# EAGLE library part INTEL_MKR_EXP_P1 (library IntelMKR_ExpP)
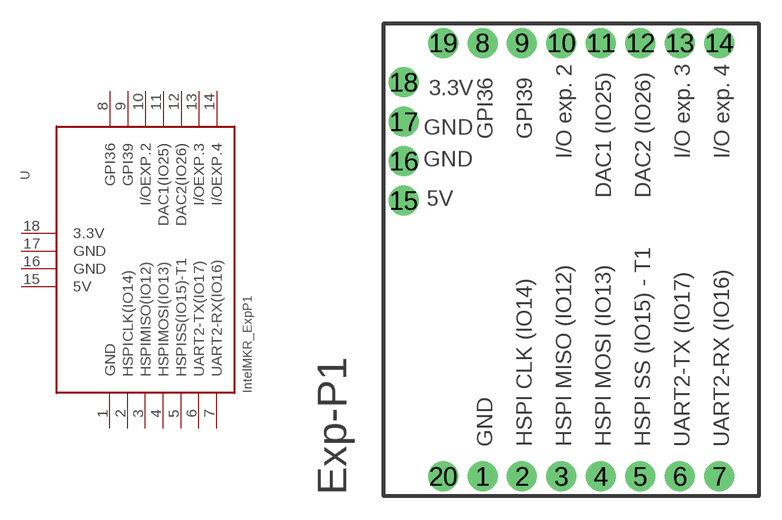
[diagram p0: symbol with the pads of INTEL_MKR_EXP_P1; footprint INTEL_MKR_EXP_P1]

Designator prefix -

## INTEL_MKR_EXP_P1  [INTEL_MKR_EXP_P1]
1  GND  pwr
2  HSPICLK(IO14)
3  HSPIMISO(IO12)
4  HSPIMOSI(IO13)
5  HSPISS(IO15)-T1
6  UART2-TX(IO17)
7  UART2-RX(IO16)
8  GPI36
9  GPI39
10  I/OEXP.2
11  DAC1(IO25)
12  DAC2(IO26)
13  I/OEXP.3
14  I/OEXP.4
15  5V  pwr
16  GND  pwr
17  GND  pwr
18  3.3V  pwr

## Footprint INTEL_MKR_EXP_P1 (pad centres in mm)
drill 1 pad 1.93: 1 5.08,-13.97; 2 7.62,-13.97; 3 10.16,-13.97; 4 12.7,-13.97; 5 15.24,-13.97; 6 17.78,-13.97; 7 20.32,-13.97; 8 5.08,13.97; 9 7.62,13.97; 10 10.16,13.97; 11 12.7,13.97; 12 15.24,13.97; 13 17.78,13.97; 14 20.32,13.97; 15 0,3.81; 16 0,6.35; 17 0,8.89; 18 0,11.43; 19 2.54,13.97; 20 2.54,-13.97